# EAGLE library part MPU-6050-BO (library s3-pilot2-lbr)
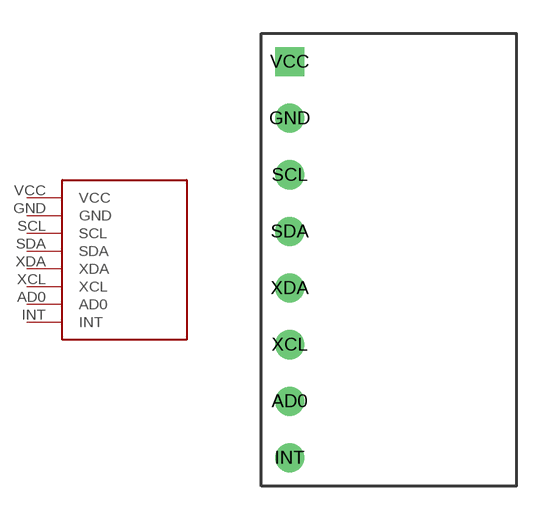
[diagram p1: symbol with the pads of MPU-6050-BO; footprint MPU-6050-BO]

Designator prefix -

## MPU-6050-BO  [MPU-6050-BO]
AD0  AD0  in
GND  GND  pwr
INT  INT  out
SCL  SCL
SDA  SDA
VCC  VCC  pwr
XCL  XCL
XDA  XDA

## Footprint MPU-6050-BO (pad centres in mm)
drill 0.8: AD0 1.27,3.81; GND 1.27,16.51; INT 1.27,1.27; SCL 1.27,13.97; SDA 1.27,11.43; XCL 1.27,6.35; XDA 1.27,8.89
drill 0.8 square: VCC 1.27,19.05